# Altium integrated library Molex Microfit.IntLib: 197 symbols (part 1 of 2)
Pins are listed as number, name and electrical type; pins without a type are passive.

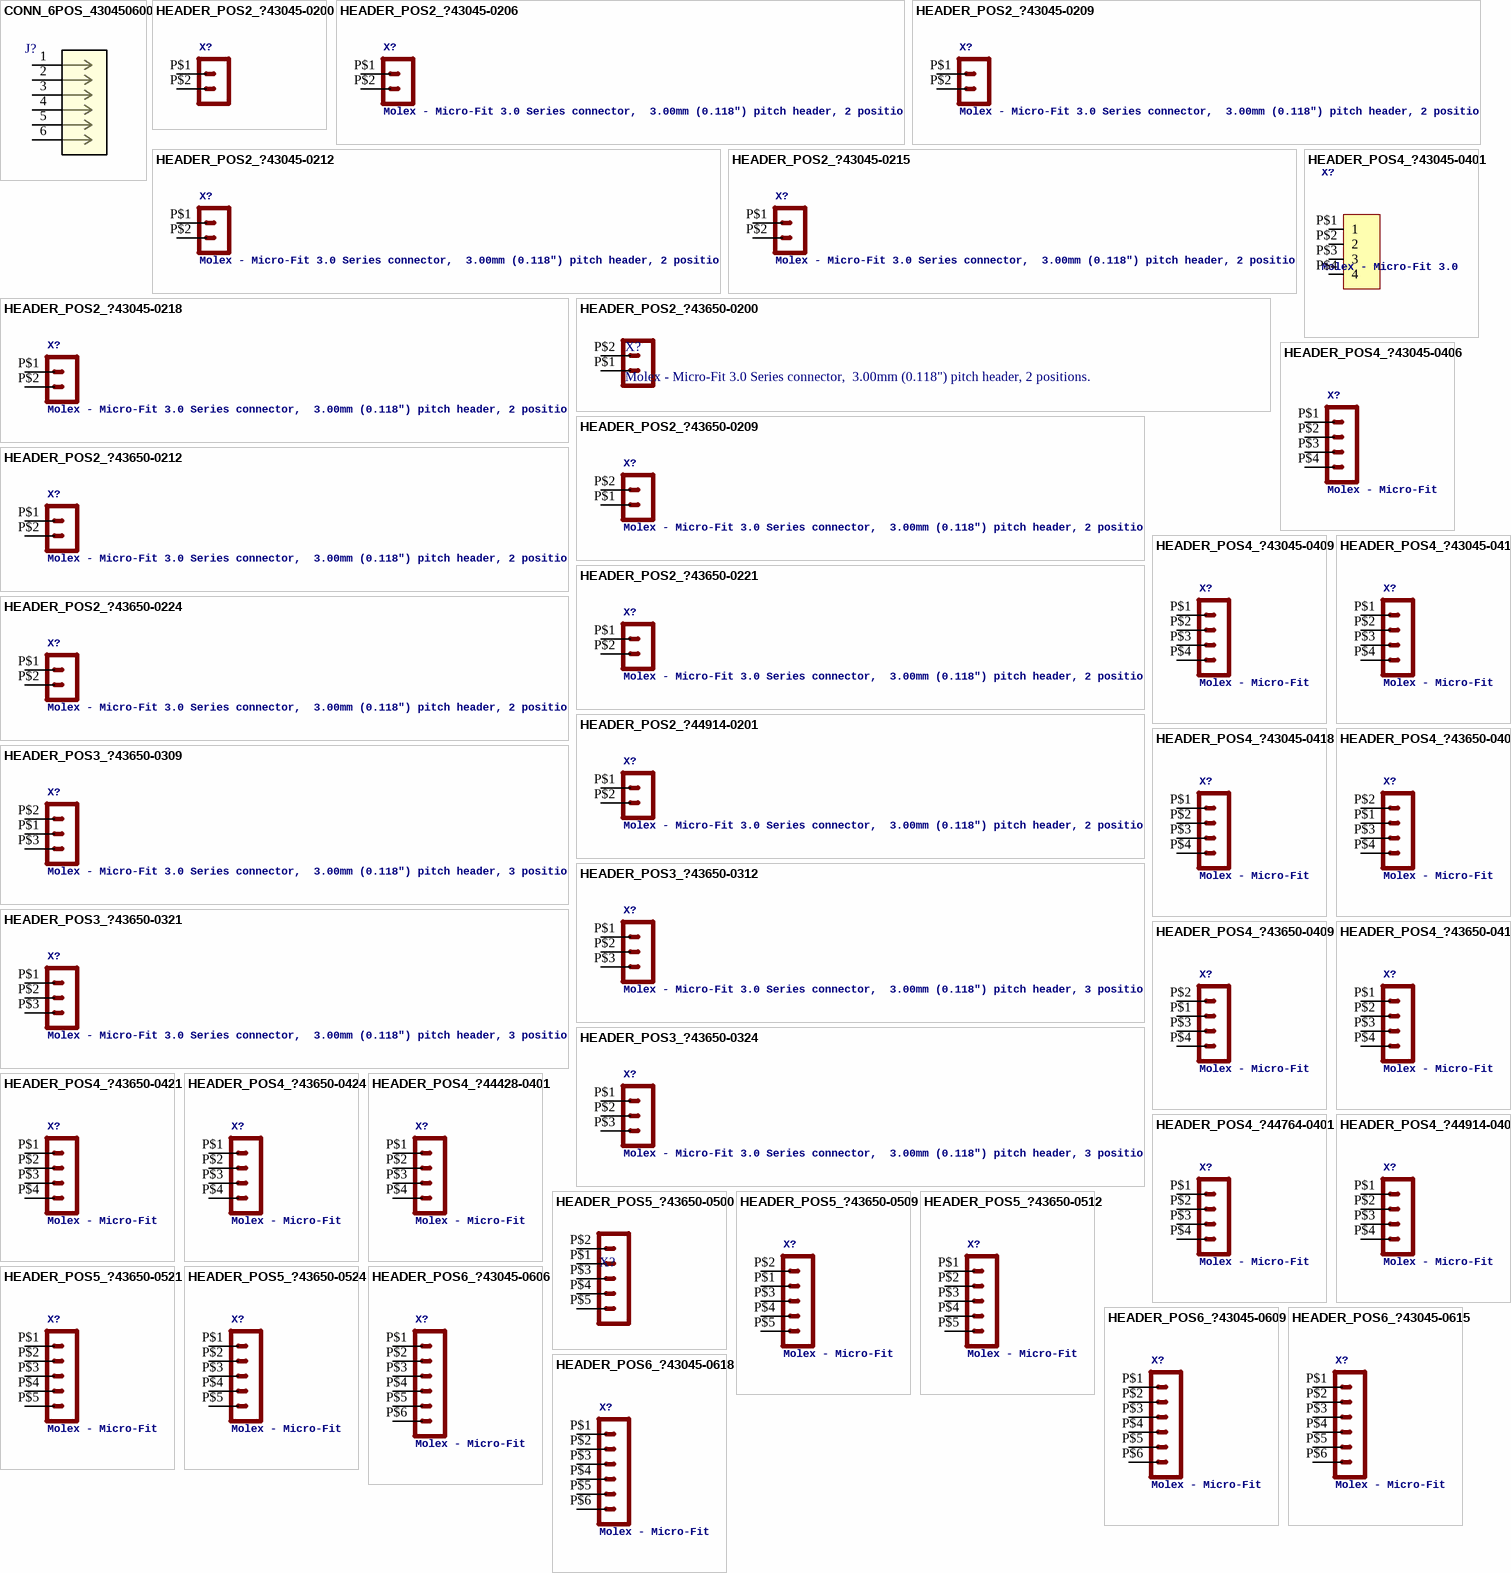
[diagram p0: symbols CONN_6POS_430450600 to HEADER_POS6_?43045-0618]

## CONN_6POS_430450600
designator J?, comment 430450600  (value not drawn)
Micro-Fit 3.0 Right-Angle Header, 3.00mm Pitch, Dual Row, 6 Circuits, with Snap-in Plastic Peg PCB Lock, Tin, Glow-Wire Capable, Black; Manufacturer_Name: Molex Connector Corporation; Copyright: Copyright (C) 2025 Ultra Librarian. All rights reserved.; Manufacturer_Part_Number: 430450600; RefDes: RefDes; Type: Type
footprint CONN_SD-43045-001_06_MOL
pins: 1, 2, 3, 4, 5, 6

## HEADER_POS2_?43045-0200
designator X?, comment Molex - Micro-Fit 3.0 Series connector,  3.00mm (0.118") pitch header, 2 positions.  (value not drawn)
GateName_1: G$1; SymbolName_1: HEADER_POS2; DeviceName: 43045-0200; DeviceSetName: HEADER_POS2_?; LibraryName: con-molex-micro-fit-3_0_2; Package: 43045-0200
footprint 43045-0200
pins: P$1 1, P$2 2

## HEADER_POS2_?43045-0206
designator X?, comment Molex - Micro-Fit 3.0 Series connector,  3.00mm (0.118") pitch header, 2 positions.
GateName_1: G$1; SymbolName_1: HEADER_POS2; DeviceName: 43045-0206; DeviceSetName: HEADER_POS2_?; LibraryName: con-molex-micro-fit-3_0_2; Package: 43045-0206
footprint 43045-0206
pins: P$1 1, P$2 2

## HEADER_POS2_?43045-0209
designator X?, comment Molex - Micro-Fit 3.0 Series connector,  3.00mm (0.118") pitch header, 2 positions.
GateName_1: G$1; SymbolName_1: HEADER_POS2; DeviceName: 43045-0209; DeviceSetName: HEADER_POS2_?; LibraryName: con-molex-micro-fit-3_0_2; Package: 43045-0209
footprint 43045-0209
pins: P$1 1, P$2 2

## HEADER_POS2_?43045-0212
designator X?, comment Molex - Micro-Fit 3.0 Series connector,  3.00mm (0.118") pitch header, 2 positions.
GateName_1: G$1; SymbolName_1: HEADER_POS2; DeviceName: 43045-0212; DeviceSetName: HEADER_POS2_?; LibraryName: con-molex-micro-fit-3_0_2; Package: 43045-0212
footprint 43045-0212
pins: P$1 1, P$2 2

## HEADER_POS2_?43045-0215
designator X?, comment Molex - Micro-Fit 3.0 Series connector,  3.00mm (0.118") pitch header, 2 positions.
GateName_1: G$1; SymbolName_1: HEADER_POS2; DeviceName: 43045-0215; DeviceSetName: HEADER_POS2_?; LibraryName: con-molex-micro-fit-3_0_2; Package: 43045-0215
footprint 43045-0215
pins: P$1 1, P$2 2

## HEADER_POS2_?43045-0218
designator X?, comment Molex - Micro-Fit 3.0 Series connector,  3.00mm (0.118") pitch header, 2 positions.
GateName_1: G$1; SymbolName_1: HEADER_POS2; DeviceName: 43045-0218; DeviceSetName: HEADER_POS2_?; LibraryName: con-molex-micro-fit-3_0_2; Package: 43045-0218
footprint 43045-0218
pins: P$1 1, P$2 2

## HEADER_POS2_?43650-0200
designator X?, comment Molex - Micro-Fit 3.0 Series connector,  3.00mm (0.118") pitch header, 2 positions.
footprint 43650-0200
pins: P$1 2, P$2 1

## HEADER_POS2_?43650-0209
designator X?, comment Molex - Micro-Fit 3.0 Series connector,  3.00mm (0.118") pitch header, 2 positions.
GateName_1: G$1; SymbolName_1: HEADER_POS2; DeviceName: 43650-0209; DeviceSetName: HEADER_POS2_?; LibraryName: con-molex-micro-fit-3_0_2; Package: 43650-0209
footprint 43650-0209
pins: P$1 2, P$2 1

## HEADER_POS2_?43650-0212
designator X?, comment Molex - Micro-Fit 3.0 Series connector,  3.00mm (0.118") pitch header, 2 positions.
GateName_1: G$1; SymbolName_1: HEADER_POS2; DeviceName: 43650-0212; DeviceSetName: HEADER_POS2_?; LibraryName: con-molex-micro-fit-3_0_2; Package: 43650-0212
footprint 43650-0212
pins: P$1 1, P$2 2

## HEADER_POS2_?43650-0221
designator X?, comment Molex - Micro-Fit 3.0 Series connector,  3.00mm (0.118") pitch header, 2 positions.
GateName_1: G$1; SymbolName_1: HEADER_POS2; DeviceName: 43650-0221; DeviceSetName: HEADER_POS2_?; LibraryName: con-molex-micro-fit-3_0_2; Package: 43650-0221
footprint 43650-0221
pins: P$1 1, P$2 2

## HEADER_POS2_?43650-0224
designator X?, comment Molex - Micro-Fit 3.0 Series connector,  3.00mm (0.118") pitch header, 2 positions.
GateName_1: G$1; SymbolName_1: HEADER_POS2; DeviceName: 43650-0224; DeviceSetName: HEADER_POS2_?; LibraryName: con-molex-micro-fit-3_0_2; Package: 43650-0224
footprint 43650-0224
pins: P$1 1, P$2 2

## HEADER_POS2_?44914-0201
designator X?, comment Molex - Micro-Fit 3.0 Series connector,  3.00mm (0.118") pitch header, 2 positions.
GateName_1: G$1; SymbolName_1: HEADER_POS2; DeviceName: 44914-0201; DeviceSetName: HEADER_POS2_?; LibraryName: con-molex-micro-fit-3_0_2; Package: 44914-0201
footprint 44914-0201
pins: P$1 1, P$2 2

## HEADER_POS3_?43650-0309
designator X?, comment Molex - Micro-Fit 3.0 Series connector,  3.00mm (0.118") pitch header, 3 positions.
GateName_1: G$1; SymbolName_1: HEADER_POS3; DeviceName: 43650-0309; DeviceSetName: HEADER_POS3_?; LibraryName: con-molex-micro-fit-3_0_2; Package: 43650-0309
footprint 43650-0309
pins: P$1 2, P$2 1, P$3 3

## HEADER_POS3_?43650-0312
designator X?, comment Molex - Micro-Fit 3.0 Series connector,  3.00mm (0.118") pitch header, 3 positions.
GateName_1: G$1; SymbolName_1: HEADER_POS3; DeviceName: 43650-0312; DeviceSetName: HEADER_POS3_?; LibraryName: con-molex-micro-fit-3_0_2; Package: 43650-0312
footprint 43650-0312
pins: P$1 1, P$2 2, P$3 3

## HEADER_POS3_?43650-0321
designator X?, comment Molex - Micro-Fit 3.0 Series connector,  3.00mm (0.118") pitch header, 3 positions.
GateName_1: G$1; SymbolName_1: HEADER_POS3; DeviceName: 43650-0321; DeviceSetName: HEADER_POS3_?; LibraryName: con-molex-micro-fit-3_0_2; Package: 43650-0321
footprint 43650-0321
pins: P$1 1, P$2 2, P$3 3

## HEADER_POS3_?43650-0324
designator X?, comment Molex - Micro-Fit 3.0 Series connector,  3.00mm (0.118") pitch header, 3 positions.
GateName_1: G$1; SymbolName_1: HEADER_POS3; DeviceName: 43650-0324; DeviceSetName: HEADER_POS3_?; LibraryName: con-molex-micro-fit-3_0_2; Package: 43650-0324
footprint 43650-0324
pins: P$1 1, P$2 2, P$3 3

## HEADER_POS4_?43045-0401
designator X?, comment Molex - Micro-Fit 3.0 Series connector,  3.00mm (0.118") pitch header, 4 positions.
GateName_1: G$1; SymbolName_1: HEADER_POS4; DeviceName: 43045-0401; DeviceSetName: HEADER_POS4_?; LibraryName: con-molex-micro-fit-3_0_2; Package: 43045-0400
footprint 43045-0400
pins: P$1 1, P$2 2, P$3 3, P$4 4

## HEADER_POS4_?43045-0406
designator X?, comment Molex - Micro-Fit 3.0 Series connector,  3.00mm (0.118") pitch header, 4 positions.
GateName_1: G$1; SymbolName_1: HEADER_POS4; DeviceName: 43045-0406; DeviceSetName: HEADER_POS4_?; LibraryName: con-molex-micro-fit-3_0_2; Package: 43045-0406
footprint 43045-0406
pins: P$1 1, P$2 2, P$3 3, P$4 4

## HEADER_POS4_?43045-0409
designator X?, comment Molex - Micro-Fit 3.0 Series connector,  3.00mm (0.118") pitch header, 4 positions.
GateName_1: G$1; SymbolName_1: HEADER_POS4; DeviceName: 43045-0409; DeviceSetName: HEADER_POS4_?; LibraryName: con-molex-micro-fit-3_0_2; Package: 43045-0409
footprint 43045-0409
pins: P$1 1, P$2 2, P$3 3, P$4 4

## HEADER_POS4_?43045-0415
designator X?, comment Molex - Micro-Fit 3.0 Series connector,  3.00mm (0.118") pitch header, 4 positions.
GateName_1: G$1; SymbolName_1: HEADER_POS4; DeviceName: 43045-0415; DeviceSetName: HEADER_POS4_?; LibraryName: con-molex-micro-fit-3_0_2; Package: 43045-0415
footprint 43045-0415
pins: P$1 1, P$2 2, P$3 3, P$4 4

## HEADER_POS4_?43045-0418
designator X?, comment Molex - Micro-Fit 3.0 Series connector,  3.00mm (0.118") pitch header, 4 positions.
GateName_1: G$1; SymbolName_1: HEADER_POS4; DeviceName: 43045-0418; DeviceSetName: HEADER_POS4_?; LibraryName: con-molex-micro-fit-3_0_2; Package: 43045-0418
footprint 43045-0418
pins: P$1 1, P$2 2, P$3 3, P$4 4

## HEADER_POS4_?43650-0400
designator X?, comment Molex - Micro-Fit 3.0 Series connector,  3.00mm (0.118") pitch header, 4 positions.
GateName_1: G$1; SymbolName_1: HEADER_POS4; DeviceName: 43650-0409; DeviceSetName: HEADER_POS4_?; LibraryName: con-molex-micro-fit-3_0_2; Package: 43650-0409
footprint 43650-0400
pins: P$1 2, P$2 1, P$3 3, P$4 4

## HEADER_POS4_?43650-0409
designator X?, comment Molex - Micro-Fit 3.0 Series connector,  3.00mm (0.118") pitch header, 4 positions.
GateName_1: G$1; SymbolName_1: HEADER_POS4; DeviceName: 43650-0409; DeviceSetName: HEADER_POS4_?; LibraryName: con-molex-micro-fit-3_0_2; Package: 43650-0409
footprint 43650-0409
pins: P$1 2, P$2 1, P$3 3, P$4 4

## HEADER_POS4_?43650-0412
designator X?, comment Molex - Micro-Fit 3.0 Series connector,  3.00mm (0.118") pitch header, 4 positions.
GateName_1: G$1; SymbolName_1: HEADER_POS4; DeviceName: 43650-0412; DeviceSetName: HEADER_POS4_?; LibraryName: con-molex-micro-fit-3_0_2; Package: 43650-0412
footprint 43650-0412
pins: P$1 1, P$2 2, P$3 3, P$4 4

## HEADER_POS4_?43650-0421
designator X?, comment Molex - Micro-Fit 3.0 Series connector,  3.00mm (0.118") pitch header, 4 positions.
GateName_1: G$1; SymbolName_1: HEADER_POS4; DeviceName: 43650-0421; DeviceSetName: HEADER_POS4_?; LibraryName: con-molex-micro-fit-3_0_2; Package: 43650-0421
footprint 43650-0421
pins: P$1 1, P$2 2, P$3 3, P$4 4

## HEADER_POS4_?43650-0424
designator X?, comment Molex - Micro-Fit 3.0 Series connector,  3.00mm (0.118") pitch header, 4 positions.
GateName_1: G$1; SymbolName_1: HEADER_POS4; DeviceName: 43650-0424; DeviceSetName: HEADER_POS4_?; LibraryName: con-molex-micro-fit-3_0_2; Package: 43650-0424
footprint 43650-0424
pins: P$1 1, P$2 2, P$3 3, P$4 4

## HEADER_POS4_?44428-0401
designator X?, comment Molex - Micro-Fit 3.0 Series connector,  3.00mm (0.118") pitch header, 4 positions.
GateName_1: G$1; SymbolName_1: HEADER_POS4; DeviceName: 44428-0401; DeviceSetName: HEADER_POS4_?; LibraryName: con-molex-micro-fit-3_0_2; Package: 44428-0401
footprint 44428-0401
pins: P$1 1, P$2 2, P$3 3, P$4 4

## HEADER_POS4_?44764-0401
designator X?, comment Molex - Micro-Fit 3.0 Series connector,  3.00mm (0.118") pitch header, 4 positions.
GateName_1: G$1; SymbolName_1: HEADER_POS4; DeviceName: 44764-0401; DeviceSetName: HEADER_POS4_?; LibraryName: con-molex-micro-fit-3_0_2; Package: 44764-0401
footprint 44764-0401
pins: P$1 1, P$2 2, P$3 3, P$4 4

## HEADER_POS4_?44914-0401
designator X?, comment Molex - Micro-Fit 3.0 Series connector,  3.00mm (0.118") pitch header, 4 positions.
GateName_1: G$1; SymbolName_1: HEADER_POS4; DeviceName: 44914-0401; DeviceSetName: HEADER_POS4_?; LibraryName: con-molex-micro-fit-3_0_2; Package: 44914-0401
footprint 44914-0401
pins: P$1 1, P$2 2, P$3 3, P$4 4

## HEADER_POS5_?43650-0500
designator X?, comment Molex - Micro-Fit 3.0 Series connector,  3.00mm (0.118") pitch header, 5 positions.  (value not drawn)
footprint 43650-0500
pins: P$1 2, P$2 1, P$3 3, P$4 4, P$5 5

## HEADER_POS5_?43650-0509
designator X?, comment Molex - Micro-Fit 3.0 Series connector,  3.00mm (0.118") pitch header, 5 positions.
GateName_1: G$1; SymbolName_1: HEADER_POS5; DeviceName: 43650-0509; DeviceSetName: HEADER_POS5_?; LibraryName: con-molex-micro-fit-3_0_2; Package: 43650-0509
footprint 43650-0509
pins: P$1 2, P$2 1, P$3 3, P$4 4, P$5 5

## HEADER_POS5_?43650-0512
designator X?, comment Molex - Micro-Fit 3.0 Series connector,  3.00mm (0.118") pitch header, 5 positions.
GateName_1: G$1; SymbolName_1: HEADER_POS5; DeviceName: 43650-0512; DeviceSetName: HEADER_POS5_?; LibraryName: con-molex-micro-fit-3_0_2; Package: 43650-0512
footprint 43650-0512
pins: P$1 1, P$2 2, P$3 3, P$4 4, P$5 5

## HEADER_POS5_?43650-0521
designator X?, comment Molex - Micro-Fit 3.0 Series connector,  3.00mm (0.118") pitch header, 5 positions.
GateName_1: G$1; SymbolName_1: HEADER_POS5; DeviceName: 43650-0521; DeviceSetName: HEADER_POS5_?; LibraryName: con-molex-micro-fit-3_0_2; Package: 43650-0521
footprint 43650-0521
pins: P$1 1, P$2 2, P$3 3, P$4 4, P$5 5

## HEADER_POS5_?43650-0524
designator X?, comment Molex - Micro-Fit 3.0 Series connector,  3.00mm (0.118") pitch header, 5 positions.
GateName_1: G$1; SymbolName_1: HEADER_POS5; DeviceName: 43650-0524; DeviceSetName: HEADER_POS5_?; LibraryName: con-molex-micro-fit-3_0_2; Package: 43650-0524
footprint 43650-0524
pins: P$1 1, P$2 2, P$3 3, P$4 4, P$5 5

## HEADER_POS6_?43045-0606
designator X?, comment Molex - Micro-Fit 3.0 Series connector,  3.00mm (0.118") pitch header, 6 positions.
GateName_1: G$1; SymbolName_1: HEADER_POS6; DeviceName: 43045-0606; DeviceSetName: HEADER_POS6_?; LibraryName: con-molex-micro-fit-3_0_2; Package: 43045-0606
footprint 43045-0606
pins: P$1 1, P$2 2, P$3 3, P$4 4, P$5 5, P$6 6

## HEADER_POS6_?43045-0609
designator X?, comment Molex - Micro-Fit 3.0 Series connector,  3.00mm (0.118") pitch header, 6 positions.
GateName_1: G$1; SymbolName_1: HEADER_POS6; DeviceName: 43045-0609; DeviceSetName: HEADER_POS6_?; LibraryName: con-molex-micro-fit-3_0_2; Package: 43045-0609
footprint 43045-0609
pins: P$1 1, P$2 2, P$3 3, P$4 4, P$5 5, P$6 6

## HEADER_POS6_?43045-0615
designator X?, comment Molex - Micro-Fit 3.0 Series connector,  3.00mm (0.118") pitch header, 6 positions.
GateName_1: G$1; SymbolName_1: HEADER_POS6; DeviceName: 43045-0615; DeviceSetName: HEADER_POS6_?; LibraryName: con-molex-micro-fit-3_0_2; Package: 43045-0615
footprint 43045-0615
pins: P$1 1, P$2 2, P$3 3, P$4 4, P$5 5, P$6 6

## HEADER_POS6_?43045-0618
designator X?, comment Molex - Micro-Fit 3.0 Series connector,  3.00mm (0.118") pitch header, 6 positions.
GateName_1: G$1; SymbolName_1: HEADER_POS6; DeviceName: 43045-0618; DeviceSetName: HEADER_POS6_?; LibraryName: con-molex-micro-fit-3_0_2; Package: 43045-0618
footprint 43045-0618
pins: P$1 1, P$2 2, P$3 3, P$4 4, P$5 5, P$6 6

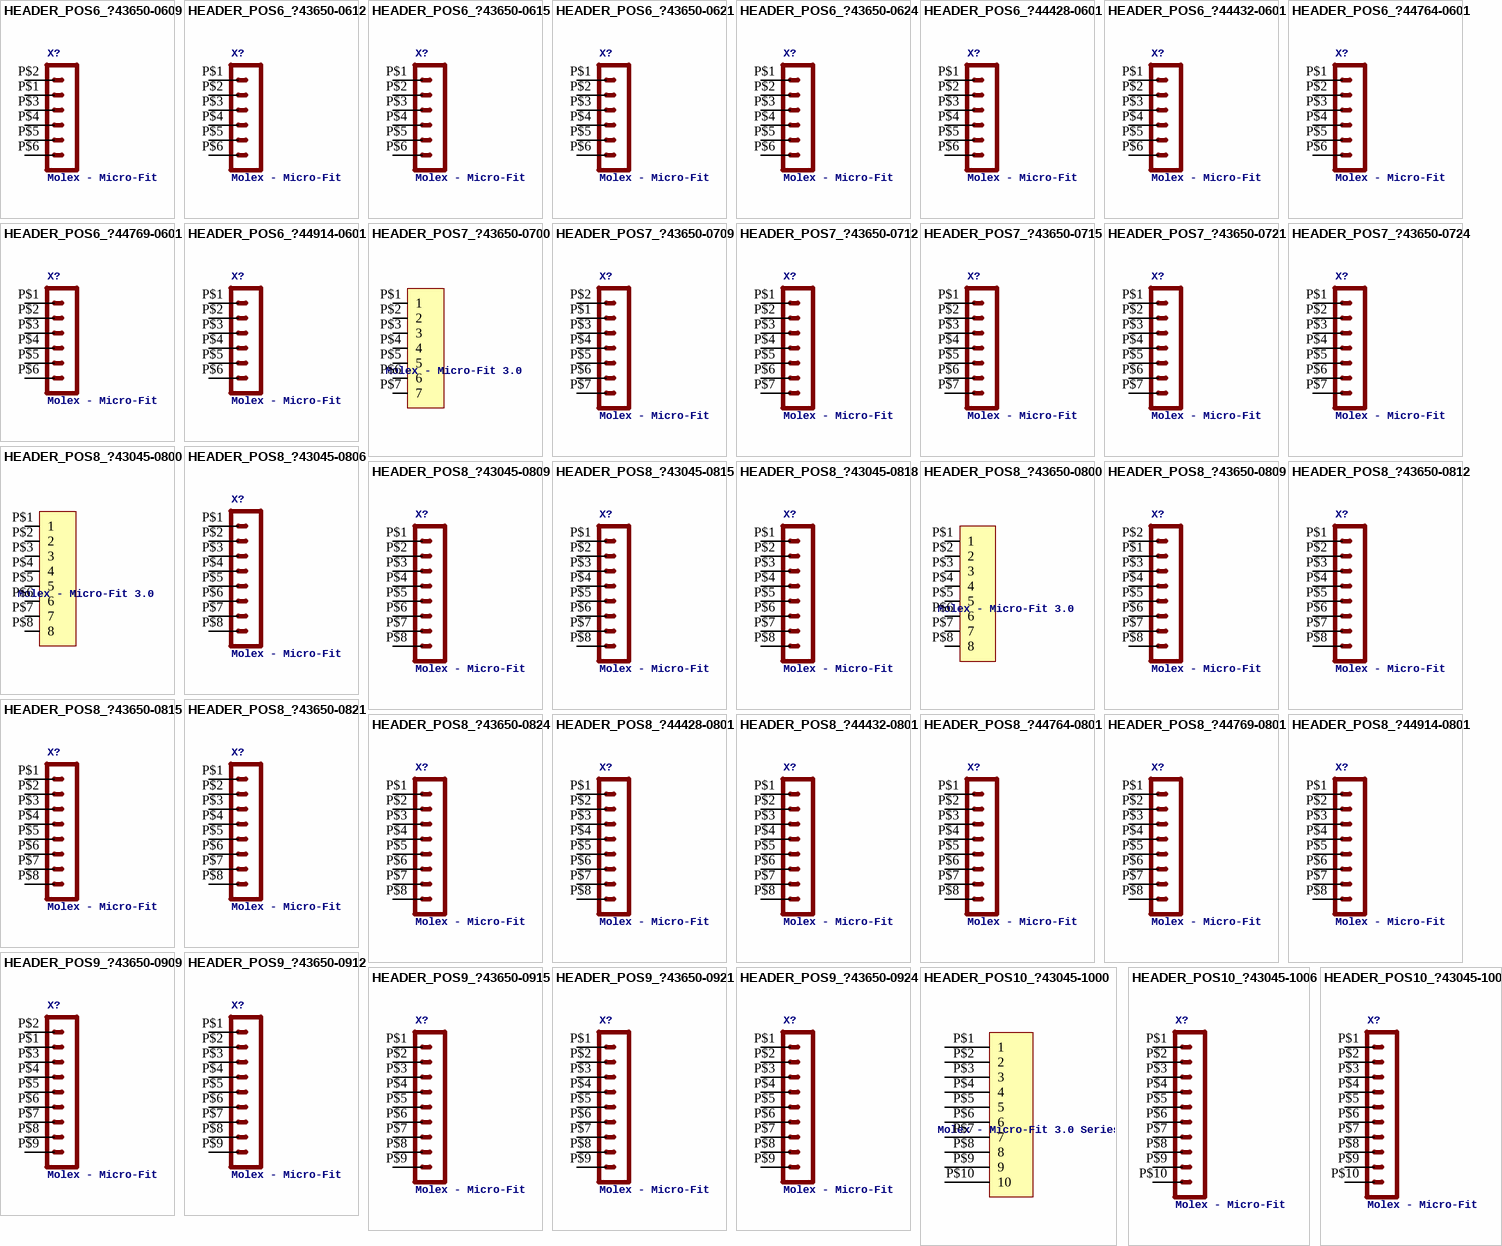
[diagram p1: symbols HEADER_POS6_?43650-0609 to HEADER_POS10_?43045-1009]

## HEADER_POS6_?43650-0609
designator X?, comment Molex - Micro-Fit 3.0 Series connector,  3.00mm (0.118") pitch header, 6 positions.
GateName_1: G$1; SymbolName_1: HEADER_POS6; DeviceName: 43650-0609; DeviceSetName: HEADER_POS6_?; LibraryName: con-molex-micro-fit-3_0_2; Package: 43650-0609
footprint 43650-0609
pins: P$1 2, P$2 1, P$3 3, P$4 4, P$5 5, P$6 6

## HEADER_POS6_?43650-0612
designator X?, comment Molex - Micro-Fit 3.0 Series connector,  3.00mm (0.118") pitch header, 6 positions.
GateName_1: G$1; SymbolName_1: HEADER_POS6; DeviceName: 43650-0612; DeviceSetName: HEADER_POS6_?; LibraryName: con-molex-micro-fit-3_0_2; Package: 43650-0612
footprint 43650-0612
pins: P$1 1, P$2 2, P$3 3, P$4 4, P$5 5, P$6 6

## HEADER_POS6_?43650-0615
designator X?, comment Molex - Micro-Fit 3.0 Series connector,  3.00mm (0.118") pitch header, 6 positions.
GateName_1: G$1; SymbolName_1: HEADER_POS6; DeviceName: 43650-0615; DeviceSetName: HEADER_POS6_?; LibraryName: con-molex-micro-fit-3_0_2; Package: 43650-0615
footprint 43650-0615
pins: P$1 1, P$2 2, P$3 3, P$4 4, P$5 5, P$6 6

## HEADER_POS6_?43650-0621
designator X?, comment Molex - Micro-Fit 3.0 Series connector,  3.00mm (0.118") pitch header, 6 positions.
GateName_1: G$1; SymbolName_1: HEADER_POS6; DeviceName: 43650-0621; DeviceSetName: HEADER_POS6_?; LibraryName: con-molex-micro-fit-3_0_2; Package: 43650-0621
footprint 43650-0621
pins: P$1 1, P$2 2, P$3 3, P$4 4, P$5 5, P$6 6

## HEADER_POS6_?43650-0624
designator X?, comment Molex - Micro-Fit 3.0 Series connector,  3.00mm (0.118") pitch header, 6 positions.
GateName_1: G$1; SymbolName_1: HEADER_POS6; DeviceName: 43650-0624; DeviceSetName: HEADER_POS6_?; LibraryName: con-molex-micro-fit-3_0_2; Package: 43650-0624
footprint 43650-0624
pins: P$1 1, P$2 2, P$3 3, P$4 4, P$5 5, P$6 6

## HEADER_POS6_?44428-0601
designator X?, comment Molex - Micro-Fit 3.0 Series connector,  3.00mm (0.118") pitch header, 6 positions.
GateName_1: G$1; SymbolName_1: HEADER_POS6; DeviceName: 44428-0601; DeviceSetName: HEADER_POS6_?; LibraryName: con-molex-micro-fit-3_0_2; Package: 44428-0601
footprint 44428-0601
pins: P$1 1, P$2 2, P$3 3, P$4 4, P$5 5, P$6 6

## HEADER_POS6_?44432-0601
designator X?, comment Molex - Micro-Fit 3.0 Series connector,  3.00mm (0.118") pitch header, 6 positions.
GateName_1: G$1; SymbolName_1: HEADER_POS6; DeviceName: 44432-0601; DeviceSetName: HEADER_POS6_?; LibraryName: con-molex-micro-fit-3_0_2; Package: 44432-0601
footprint 44432-0601
pins: P$1 1, P$2 2, P$3 3, P$4 4, P$5 5, P$6 6

## HEADER_POS6_?44764-0601
designator X?, comment Molex - Micro-Fit 3.0 Series connector,  3.00mm (0.118") pitch header, 6 positions.
GateName_1: G$1; SymbolName_1: HEADER_POS6; DeviceName: 44764-0601; DeviceSetName: HEADER_POS6_?; LibraryName: con-molex-micro-fit-3_0_2; Package: 44764-0601
footprint 44764-0601
pins: P$1 1, P$2 2, P$3 3, P$4 4, P$5 5, P$6 6

## HEADER_POS6_?44769-0601
designator X?, comment Molex - Micro-Fit 3.0 Series connector,  3.00mm (0.118") pitch header, 6 positions.
GateName_1: G$1; SymbolName_1: HEADER_POS6; DeviceName: 44769-0601; DeviceSetName: HEADER_POS6_?; LibraryName: con-molex-micro-fit-3_0_2; Package: 44769-0601
footprint 44769-0601
pins: P$1 1, P$2 2, P$3 3, P$4 4, P$5 5, P$6 6

## HEADER_POS6_?44914-0601
designator X?, comment Molex - Micro-Fit 3.0 Series connector,  3.00mm (0.118") pitch header, 6 positions.
GateName_1: G$1; SymbolName_1: HEADER_POS6; DeviceName: 44914-0601; DeviceSetName: HEADER_POS6_?; LibraryName: con-molex-micro-fit-3_0_2; Package: 44914-0601
footprint 44914-0601
pins: P$1 1, P$2 2, P$3 3, P$4 4, P$5 5, P$6 6

## HEADER_POS7_?43650-0700
designator X?, comment Molex - Micro-Fit 3.0 Series connector,  3.00mm (0.118") pitch header, 7 positions.
GateName_1: G$1; SymbolName_1: HEADER_POS7; DeviceName: 43650-0700; DeviceSetName: HEADER_POS7_?; LibraryName: con-molex-micro-fit-3_0_2; Package: 43650-0700
footprint 43650-0700
pins: P$1 1, P$2 2, P$3 3, P$4 4, P$5 5, P$6 6, P$7 7

## HEADER_POS7_?43650-0709
designator X?, comment Molex - Micro-Fit 3.0 Series connector,  3.00mm (0.118") pitch header, 7 positions.
GateName_1: G$1; SymbolName_1: HEADER_POS7; DeviceName: 43650-0709; DeviceSetName: HEADER_POS7_?; LibraryName: con-molex-micro-fit-3_0_2; Package: 43650-0709
footprint 43650-0709
pins: P$1 2, P$2 1, P$3 3, P$4 4, P$5 5, P$6 6, P$7 7

## HEADER_POS7_?43650-0712
designator X?, comment Molex - Micro-Fit 3.0 Series connector,  3.00mm (0.118") pitch header, 7 positions.
GateName_1: G$1; SymbolName_1: HEADER_POS7; DeviceName: 43650-0712; DeviceSetName: HEADER_POS7_?; LibraryName: con-molex-micro-fit-3_0_2; Package: 43650-0712
footprint 43650-0712
pins: P$1 1, P$2 2, P$3 3, P$4 4, P$5 5, P$6 6, P$7 7

## HEADER_POS7_?43650-0715
designator X?, comment Molex - Micro-Fit 3.0 Series connector,  3.00mm (0.118") pitch header, 7 positions.
GateName_1: G$1; SymbolName_1: HEADER_POS7; DeviceName: 43650-0715; DeviceSetName: HEADER_POS7_?; LibraryName: con-molex-micro-fit-3_0_2; Package: 43650-0715
footprint 43650-0715
pins: P$1 1, P$2 2, P$3 3, P$4 4, P$5 5, P$6 6, P$7 7

## HEADER_POS7_?43650-0721
designator X?, comment Molex - Micro-Fit 3.0 Series connector,  3.00mm (0.118") pitch header, 7 positions.
GateName_1: G$1; SymbolName_1: HEADER_POS7; DeviceName: 43650-0721; DeviceSetName: HEADER_POS7_?; LibraryName: con-molex-micro-fit-3_0_2; Package: 43650-0721
footprint 43650-0721
pins: P$1 1, P$2 2, P$3 3, P$4 4, P$5 5, P$6 6, P$7 7

## HEADER_POS7_?43650-0724
designator X?, comment Molex - Micro-Fit 3.0 Series connector,  3.00mm (0.118") pitch header, 7 positions.
GateName_1: G$1; SymbolName_1: HEADER_POS7; DeviceName: 43650-0724; DeviceSetName: HEADER_POS7_?; LibraryName: con-molex-micro-fit-3_0_2; Package: 43650-0724
footprint 43650-0724
pins: P$1 1, P$2 2, P$3 3, P$4 4, P$5 5, P$6 6, P$7 7

## HEADER_POS8_?43045-0800
designator X?, comment Molex - Micro-Fit 3.0 Series connector,  3.00mm (0.118") pitch header, 8 positions.
GateName_1: G$1; SymbolName_1: HEADER_POS8; DeviceName: 43045-0800; DeviceSetName: HEADER_POS8_?; LibraryName: con-molex-micro-fit-3_0_2; Package: 43045-0800
footprint 43045-0800
pins: P$1 1, P$2 2, P$3 3, P$4 4, P$5 5, P$6 6, P$7 7, P$8 8

## HEADER_POS8_?43045-0806
designator X?, comment Molex - Micro-Fit 3.0 Series connector,  3.00mm (0.118") pitch header, 8 positions.
GateName_1: G$1; SymbolName_1: HEADER_POS8; DeviceName: 43045-0806; DeviceSetName: HEADER_POS8_?; LibraryName: con-molex-micro-fit-3_0_2; Package: 43045-0806
footprint 43045-0806
pins: P$1 1, P$2 2, P$3 3, P$4 4, P$5 5, P$6 6, P$7 7, P$8 8

## HEADER_POS8_?43045-0809
designator X?, comment Molex - Micro-Fit 3.0 Series connector,  3.00mm (0.118") pitch header, 8 positions.
GateName_1: G$1; SymbolName_1: HEADER_POS8; DeviceName: 43045-0809; DeviceSetName: HEADER_POS8_?; LibraryName: con-molex-micro-fit-3_0_2; Package: 43045-0809
footprint 43045-0809
pins: P$1 1, P$2 2, P$3 3, P$4 4, P$5 5, P$6 6, P$7 7, P$8 8

## HEADER_POS8_?43045-0815
designator X?, comment Molex - Micro-Fit 3.0 Series connector,  3.00mm (0.118") pitch header, 8 positions.
GateName_1: G$1; SymbolName_1: HEADER_POS8; DeviceName: 43045-0815; DeviceSetName: HEADER_POS8_?; LibraryName: con-molex-micro-fit-3_0_2; Package: 43045-0815
footprint 43045-0815
pins: P$1 1, P$2 2, P$3 3, P$4 4, P$5 5, P$6 6, P$7 7, P$8 8

## HEADER_POS8_?43045-0818
designator X?, comment Molex - Micro-Fit 3.0 Series connector,  3.00mm (0.118") pitch header, 8 positions.
GateName_1: G$1; SymbolName_1: HEADER_POS8; DeviceName: 43045-0818; DeviceSetName: HEADER_POS8_?; LibraryName: con-molex-micro-fit-3_0_2; Package: 43045-0818
footprint 43045-0818
pins: P$1 1, P$2 2, P$3 3, P$4 4, P$5 5, P$6 6, P$7 7, P$8 8

## HEADER_POS8_?43650-0800
designator X?, comment Molex - Micro-Fit 3.0 Series connector,  3.00mm (0.118") pitch header, 8 positions.
GateName_1: G$1; SymbolName_1: HEADER_POS8; DeviceName: 43650-0800; DeviceSetName: HEADER_POS8_?; LibraryName: con-molex-micro-fit-3_0_2; Package: 43650-0800
footprint 43650-0800
pins: P$1 1, P$2 2, P$3 3, P$4 4, P$5 5, P$6 6, P$7 7, P$8 8

## HEADER_POS8_?43650-0809
designator X?, comment Molex - Micro-Fit 3.0 Series connector,  3.00mm (0.118") pitch header, 8 positions.
GateName_1: G$1; SymbolName_1: HEADER_POS8; DeviceName: 43650-0809; DeviceSetName: HEADER_POS8_?; LibraryName: con-molex-micro-fit-3_0_2; Package: 43650-0809
footprint 43650-0809
pins: P$1 2, P$2 1, P$3 3, P$4 4, P$5 5, P$6 6, P$7 7, P$8 8

## HEADER_POS8_?43650-0812
designator X?, comment Molex - Micro-Fit 3.0 Series connector,  3.00mm (0.118") pitch header, 8 positions.
GateName_1: G$1; SymbolName_1: HEADER_POS8; DeviceName: 43650-0812; DeviceSetName: HEADER_POS8_?; LibraryName: con-molex-micro-fit-3_0_2; Package: 43650-0812
footprint 43650-0812
pins: P$1 1, P$2 2, P$3 3, P$4 4, P$5 5, P$6 6, P$7 7, P$8 8

## HEADER_POS8_?43650-0815
designator X?, comment Molex - Micro-Fit 3.0 Series connector,  3.00mm (0.118") pitch header, 8 positions.
GateName_1: G$1; SymbolName_1: HEADER_POS8; DeviceName: 43650-0815; DeviceSetName: HEADER_POS8_?; LibraryName: con-molex-micro-fit-3_0_2; Package: 43650-0815
footprint 43650-0815
pins: P$1 1, P$2 2, P$3 3, P$4 4, P$5 5, P$6 6, P$7 7, P$8 8

## HEADER_POS8_?43650-0821
designator X?, comment Molex - Micro-Fit 3.0 Series connector,  3.00mm (0.118") pitch header, 8 positions.
GateName_1: G$1; SymbolName_1: HEADER_POS8; DeviceName: 43650-0821; DeviceSetName: HEADER_POS8_?; LibraryName: con-molex-micro-fit-3_0_2; Package: 43650-0821
footprint 43650-0821
pins: P$1 1, P$2 2, P$3 3, P$4 4, P$5 5, P$6 6, P$7 7, P$8 8

## HEADER_POS8_?43650-0824
designator X?, comment Molex - Micro-Fit 3.0 Series connector,  3.00mm (0.118") pitch header, 8 positions.
GateName_1: G$1; SymbolName_1: HEADER_POS8; DeviceName: 43650-0824; DeviceSetName: HEADER_POS8_?; LibraryName: con-molex-micro-fit-3_0_2; Package: 43650-0824
footprint 43650-0824
pins: P$1 1, P$2 2, P$3 3, P$4 4, P$5 5, P$6 6, P$7 7, P$8 8

## HEADER_POS8_?44428-0801
designator X?, comment Molex - Micro-Fit 3.0 Series connector,  3.00mm (0.118") pitch header, 8 positions.
GateName_1: G$1; SymbolName_1: HEADER_POS8; DeviceName: 44428-0801; DeviceSetName: HEADER_POS8_?; LibraryName: con-molex-micro-fit-3_0_2; Package: 44428-0801
footprint 44428-0801
pins: P$1 1, P$2 2, P$3 3, P$4 4, P$5 5, P$6 6, P$7 7, P$8 8

## HEADER_POS8_?44432-0801
designator X?, comment Molex - Micro-Fit 3.0 Series connector,  3.00mm (0.118") pitch header, 8 positions.
GateName_1: G$1; SymbolName_1: HEADER_POS8; DeviceName: 44432-0801; DeviceSetName: HEADER_POS8_?; LibraryName: con-molex-micro-fit-3_0_2; Package: 44432-0801
footprint 44432-0801
pins: P$1 1, P$2 2, P$3 3, P$4 4, P$5 5, P$6 6, P$7 7, P$8 8

## HEADER_POS8_?44764-0801
designator X?, comment Molex - Micro-Fit 3.0 Series connector,  3.00mm (0.118") pitch header, 8 positions.
GateName_1: G$1; SymbolName_1: HEADER_POS8; DeviceName: 44764-0801; DeviceSetName: HEADER_POS8_?; LibraryName: con-molex-micro-fit-3_0_2; Package: 44764-0801
footprint 44764-0801
pins: P$1 1, P$2 2, P$3 3, P$4 4, P$5 5, P$6 6, P$7 7, P$8 8

## HEADER_POS8_?44769-0801
designator X?, comment Molex - Micro-Fit 3.0 Series connector,  3.00mm (0.118") pitch header, 8 positions.
GateName_1: G$1; SymbolName_1: HEADER_POS8; DeviceName: 44769-0801; DeviceSetName: HEADER_POS8_?; LibraryName: con-molex-micro-fit-3_0_2; Package: 44769-0801
footprint 44769-0801
pins: P$1 1, P$2 2, P$3 3, P$4 4, P$5 5, P$6 6, P$7 7, P$8 8

## HEADER_POS8_?44914-0801
designator X?, comment Molex - Micro-Fit 3.0 Series connector,  3.00mm (0.118") pitch header, 8 positions.
GateName_1: G$1; SymbolName_1: HEADER_POS8; DeviceName: 44914-0801; DeviceSetName: HEADER_POS8_?; LibraryName: con-molex-micro-fit-3_0_2; Package: 44914-0801
footprint 44914-0801
pins: P$1 1, P$2 2, P$3 3, P$4 4, P$5 5, P$6 6, P$7 7, P$8 8

## HEADER_POS9_?43650-0909
designator X?, comment Molex - Micro-Fit 3.0 Series connector,  3.00mm (0.118") pitch header, 9 positions.
GateName_1: G$1; SymbolName_1: HEADER_POS9; DeviceName: 43650-0909; DeviceSetName: HEADER_POS9_?; LibraryName: con-molex-micro-fit-3_0_2; Package: 43650-0909
footprint 43650-0909
pins: P$1 2, P$2 1, P$3 3, P$4 4, P$5 5, P$6 6, P$7 7, P$8 8, P$9 9

## HEADER_POS9_?43650-0912
designator X?, comment Molex - Micro-Fit 3.0 Series connector,  3.00mm (0.118") pitch header, 9 positions.
GateName_1: G$1; SymbolName_1: HEADER_POS9; DeviceName: 43650-0912; DeviceSetName: HEADER_POS9_?; LibraryName: con-molex-micro-fit-3_0_2; Package: 43650-0912
footprint 43650-0912
pins: P$1 1, P$2 2, P$3 3, P$4 4, P$5 5, P$6 6, P$7 7, P$8 8, P$9 9

## HEADER_POS9_?43650-0915
designator X?, comment Molex - Micro-Fit 3.0 Series connector,  3.00mm (0.118") pitch header, 9 positions.
GateName_1: G$1; SymbolName_1: HEADER_POS9; DeviceName: 43650-0915; DeviceSetName: HEADER_POS9_?; LibraryName: con-molex-micro-fit-3_0_2; Package: 43650-0915
footprint 43650-0915
pins: P$1 1, P$2 2, P$3 3, P$4 4, P$5 5, P$6 6, P$7 7, P$8 8, P$9 9

## HEADER_POS9_?43650-0921
designator X?, comment Molex - Micro-Fit 3.0 Series connector,  3.00mm (0.118") pitch header, 9 positions.
GateName_1: G$1; SymbolName_1: HEADER_POS9; DeviceName: 43650-0921; DeviceSetName: HEADER_POS9_?; LibraryName: con-molex-micro-fit-3_0_2; Package: 43650-0921
footprint 43650-0921
pins: P$1 1, P$2 2, P$3 3, P$4 4, P$5 5, P$6 6, P$7 7, P$8 8, P$9 9

## HEADER_POS9_?43650-0924
designator X?, comment Molex - Micro-Fit 3.0 Series connector,  3.00mm (0.118") pitch header, 9 positions.
GateName_1: G$1; SymbolName_1: HEADER_POS9; DeviceName: 43650-0924; DeviceSetName: HEADER_POS9_?; LibraryName: con-molex-micro-fit-3_0_2; Package: 43650-0924
footprint 43650-0924
pins: P$1 1, P$2 2, P$3 3, P$4 4, P$5 5, P$6 6, P$7 7, P$8 8, P$9 9

## HEADER_POS10_?43045-1000
designator X?, comment Molex - Micro-Fit 3.0 Series connector,  3.00mm (0.118") pitch header, 10 positions.
GateName_1: G$1; SymbolName_1: HEADER_POS10; DeviceName: 43045-1000; DeviceSetName: HEADER_POS10_?; LibraryName: con-molex-micro-fit-3_0_2; Package: 43045-1000
footprint 43045-1000
pins: P$1 1, P$2 2, P$3 3, P$4 4, P$5 5, P$6 6, P$7 7, P$8 8, P$9 9, P$10 10

## HEADER_POS10_?43045-1006
designator X?, comment Molex - Micro-Fit 3.0 Series connector,  3.00mm (0.118") pitch header, 10 positions.
GateName_1: G$1; SymbolName_1: HEADER_POS10; DeviceName: 43045-1006; DeviceSetName: HEADER_POS10_?; LibraryName: con-molex-micro-fit-3_0_2; Package: 43045-1006
footprint 43045-1006
pins: P$1 1, P$2 2, P$3 3, P$4 4, P$5 5, P$6 6, P$7 7, P$8 8, P$9 9, P$10 10

## HEADER_POS10_?43045-1009
designator X?, comment Molex - Micro-Fit 3.0 Series connector,  3.00mm (0.118") pitch header, 10 positions.
GateName_1: G$1; SymbolName_1: HEADER_POS10; DeviceName: 43045-1009; DeviceSetName: HEADER_POS10_?; LibraryName: con-molex-micro-fit-3_0_2; Package: 43045-1009
footprint 43045-1009
pins: P$1 1, P$2 2, P$3 3, P$4 4, P$5 5, P$6 6, P$7 7, P$8 8, P$9 9, P$10 10

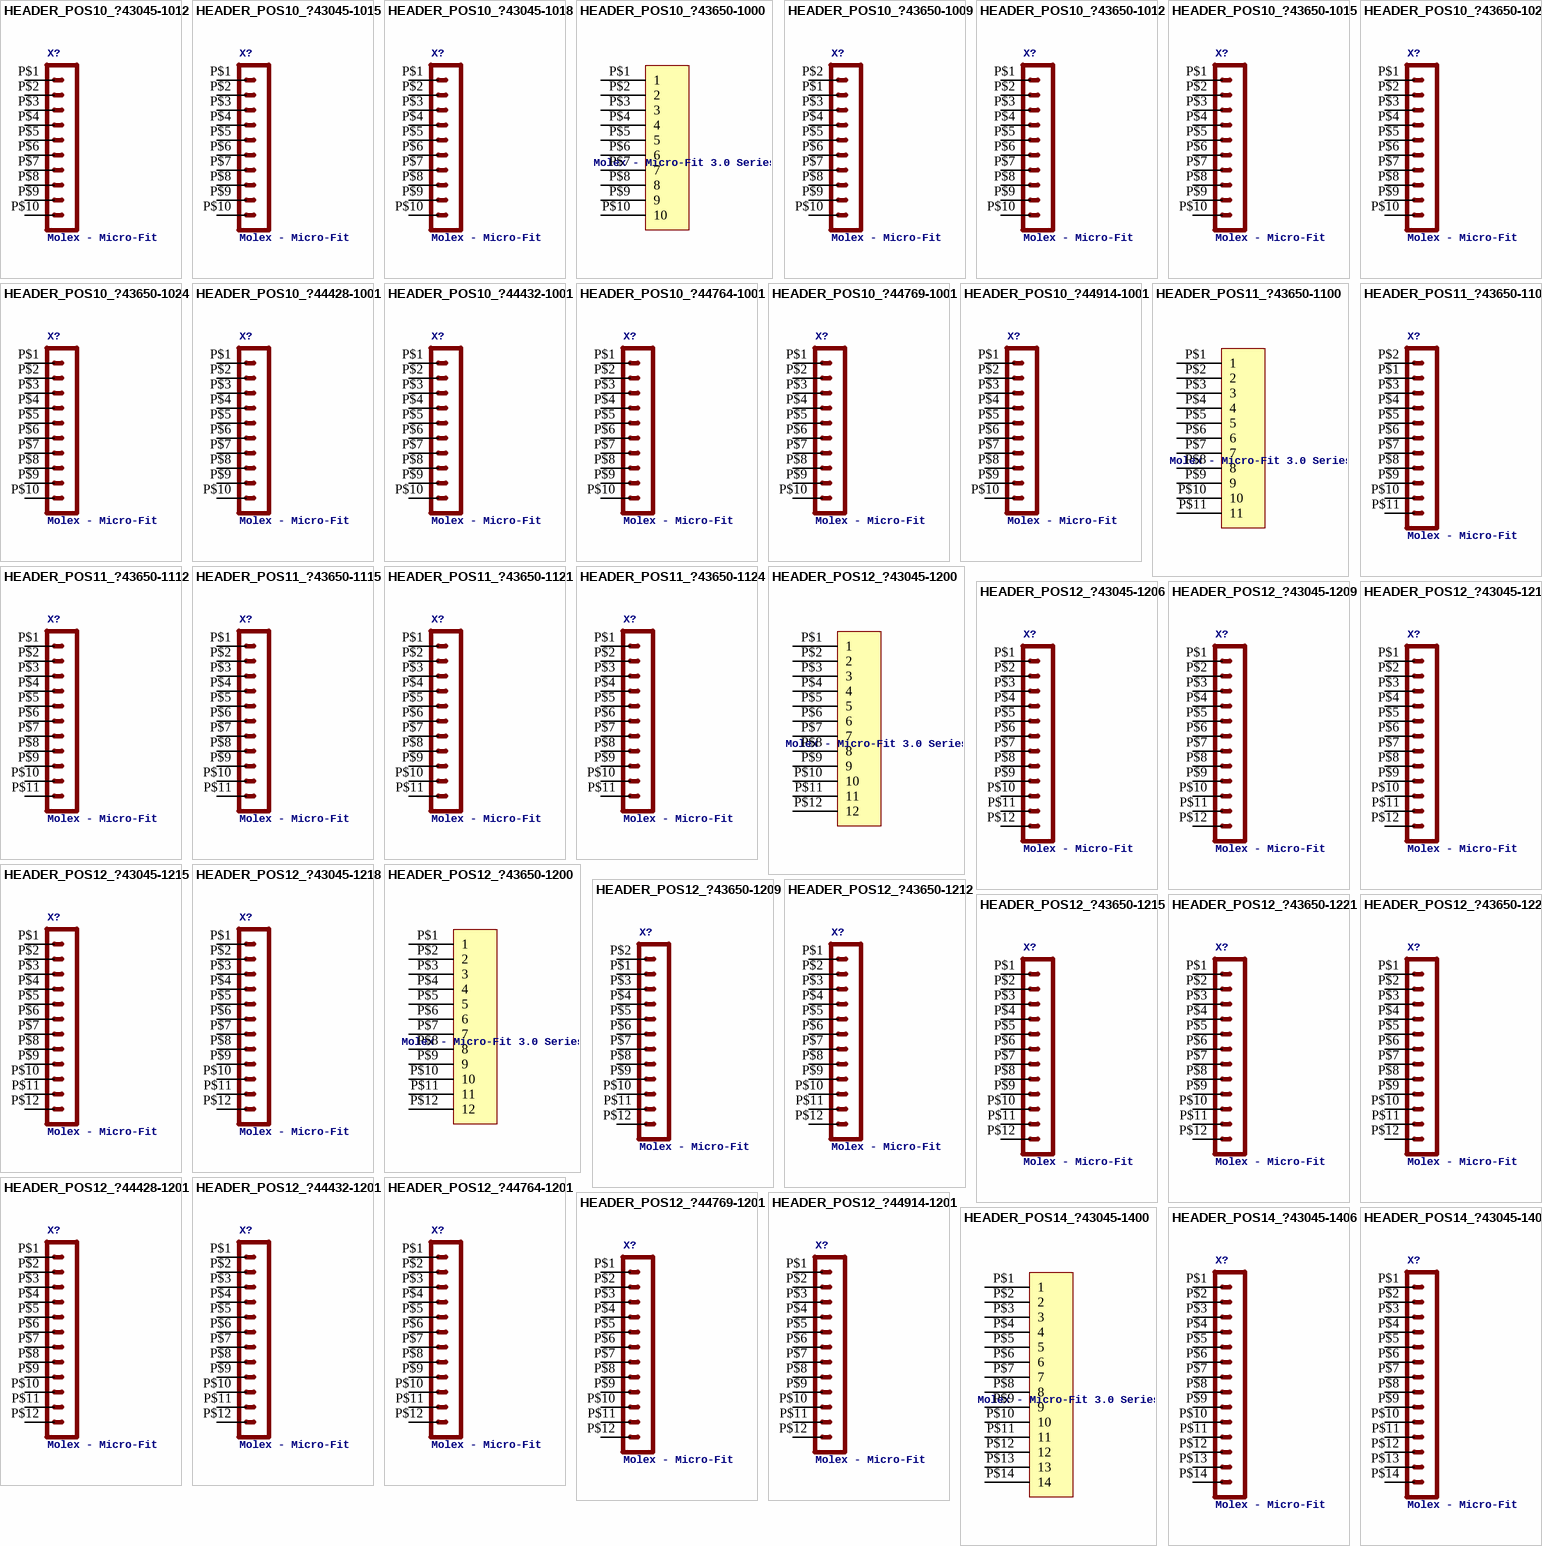
[diagram p2: symbols HEADER_POS10_?43045-1012 to HEADER_POS14_?43045-1409]

## HEADER_POS10_?43045-1012
designator X?, comment Molex - Micro-Fit 3.0 Series connector,  3.00mm (0.118") pitch header, 10 positions.
GateName_1: G$1; SymbolName_1: HEADER_POS10; DeviceName: 43045-1012; DeviceSetName: HEADER_POS10_?; LibraryName: con-molex-micro-fit-3_0_2; Package: 43045-1012
footprint 43045-1012
pins: P$1 1, P$2 2, P$3 3, P$4 4, P$5 5, P$6 6, P$7 7, P$8 8, P$9 9, P$10 10

## HEADER_POS10_?43045-1015
designator X?, comment Molex - Micro-Fit 3.0 Series connector,  3.00mm (0.118") pitch header, 10 positions.
GateName_1: G$1; SymbolName_1: HEADER_POS10; DeviceName: 43045-1015; DeviceSetName: HEADER_POS10_?; LibraryName: con-molex-micro-fit-3_0_2; Package: 43045-1015
footprint 43045-1015
pins: P$1 1, P$2 2, P$3 3, P$4 4, P$5 5, P$6 6, P$7 7, P$8 8, P$9 9, P$10 10

## HEADER_POS10_?43045-1018
designator X?, comment Molex - Micro-Fit 3.0 Series connector,  3.00mm (0.118") pitch header, 10 positions.
GateName_1: G$1; SymbolName_1: HEADER_POS10; DeviceName: 43045-1018; DeviceSetName: HEADER_POS10_?; LibraryName: con-molex-micro-fit-3_0_2; Package: 43045-1018
footprint 43045-1018
pins: P$1 1, P$2 2, P$3 3, P$4 4, P$5 5, P$6 6, P$7 7, P$8 8, P$9 9, P$10 10

## HEADER_POS10_?43650-1000
designator X?, comment Molex - Micro-Fit 3.0 Series connector,  3.00mm (0.118") pitch header, 10 positions.
GateName_1: G$1; SymbolName_1: HEADER_POS10; DeviceName: 43650-1000; DeviceSetName: HEADER_POS10_?; LibraryName: con-molex-micro-fit-3_0_2; Package: 43650-1000
footprint 43650-1000
pins: P$1 1, P$2 2, P$3 3, P$4 4, P$5 5, P$6 6, P$7 7, P$8 8, P$9 9, P$10 10

## HEADER_POS10_?43650-1009
designator X?, comment Molex - Micro-Fit 3.0 Series connector,  3.00mm (0.118") pitch header, 10 positions.
GateName_1: G$1; SymbolName_1: HEADER_POS10; DeviceName: 43650-1009; DeviceSetName: HEADER_POS10_?; LibraryName: con-molex-micro-fit-3_0_2; Package: 43650-1009
footprint 43650-1009
pins: P$1 2, P$2 1, P$3 3, P$4 4, P$5 5, P$6 6, P$7 7, P$8 8, P$9 9, P$10 10

## HEADER_POS10_?43650-1012
designator X?, comment Molex - Micro-Fit 3.0 Series connector,  3.00mm (0.118") pitch header, 10 positions.
GateName_1: G$1; SymbolName_1: HEADER_POS10; DeviceName: 43650-1012; DeviceSetName: HEADER_POS10_?; LibraryName: con-molex-micro-fit-3_0_2; Package: 43650-1012
footprint 43650-1012
pins: P$1 1, P$2 2, P$3 3, P$4 4, P$5 5, P$6 6, P$7 7, P$8 8, P$9 9, P$10 10

## HEADER_POS10_?43650-1015
designator X?, comment Molex - Micro-Fit 3.0 Series connector,  3.00mm (0.118") pitch header, 10 positions.
GateName_1: G$1; SymbolName_1: HEADER_POS10; DeviceName: 43650-1015; DeviceSetName: HEADER_POS10_?; LibraryName: con-molex-micro-fit-3_0_2; Package: 43650-1015
footprint 43650-1015
pins: P$1 1, P$2 2, P$3 3, P$4 4, P$5 5, P$6 6, P$7 7, P$8 8, P$9 9, P$10 10

## HEADER_POS10_?43650-1021
designator X?, comment Molex - Micro-Fit 3.0 Series connector,  3.00mm (0.118") pitch header, 10 positions.
GateName_1: G$1; SymbolName_1: HEADER_POS10; DeviceName: 43650-1021; DeviceSetName: HEADER_POS10_?; LibraryName: con-molex-micro-fit-3_0_2; Package: 43650-1021
footprint 43650-1021
pins: P$1 1, P$2 2, P$3 3, P$4 4, P$5 5, P$6 6, P$7 7, P$8 8, P$9 9, P$10 10

## HEADER_POS10_?43650-1024
designator X?, comment Molex - Micro-Fit 3.0 Series connector,  3.00mm (0.118") pitch header, 10 positions.
GateName_1: G$1; SymbolName_1: HEADER_POS10; DeviceName: 43650-1024; DeviceSetName: HEADER_POS10_?; LibraryName: con-molex-micro-fit-3_0_2; Package: 43650-1024
footprint 43650-1024
pins: P$1 1, P$2 2, P$3 3, P$4 4, P$5 5, P$6 6, P$7 7, P$8 8, P$9 9, P$10 10

## HEADER_POS10_?44428-1001
designator X?, comment Molex - Micro-Fit 3.0 Series connector,  3.00mm (0.118") pitch header, 10 positions.
GateName_1: G$1; SymbolName_1: HEADER_POS10; DeviceName: 44428-1001; DeviceSetName: HEADER_POS10_?; LibraryName: con-molex-micro-fit-3_0_2; Package: 44428-1001
footprint 44428-1001
pins: P$1 1, P$2 2, P$3 3, P$4 4, P$5 5, P$6 6, P$7 7, P$8 8, P$9 9, P$10 10

## HEADER_POS10_?44432-1001
designator X?, comment Molex - Micro-Fit 3.0 Series connector,  3.00mm (0.118") pitch header, 10 positions.
GateName_1: G$1; SymbolName_1: HEADER_POS10; DeviceName: 44432-1001; DeviceSetName: HEADER_POS10_?; LibraryName: con-molex-micro-fit-3_0_2; Package: 44432-1001
footprint 44432-1001
pins: P$1 1, P$2 2, P$3 3, P$4 4, P$5 5, P$6 6, P$7 7, P$8 8, P$9 9, P$10 10

## HEADER_POS10_?44764-1001
designator X?, comment Molex - Micro-Fit 3.0 Series connector,  3.00mm (0.118") pitch header, 10 positions.
GateName_1: G$1; SymbolName_1: HEADER_POS10; DeviceName: 44764-1001; DeviceSetName: HEADER_POS10_?; LibraryName: con-molex-micro-fit-3_0_2; Package: 44764-1001
footprint 44764-1001
pins: P$1 1, P$2 2, P$3 3, P$4 4, P$5 5, P$6 6, P$7 7, P$8 8, P$9 9, P$10 10

## HEADER_POS10_?44769-1001
designator X?, comment Molex - Micro-Fit 3.0 Series connector,  3.00mm (0.118") pitch header, 10 positions.
GateName_1: G$1; SymbolName_1: HEADER_POS10; DeviceName: 44769-1001; DeviceSetName: HEADER_POS10_?; LibraryName: con-molex-micro-fit-3_0_2; Package: 44769-1001
footprint 44769-1001
pins: P$1 1, P$2 2, P$3 3, P$4 4, P$5 5, P$6 6, P$7 7, P$8 8, P$9 9, P$10 10

## HEADER_POS10_?44914-1001
designator X?, comment Molex - Micro-Fit 3.0 Series connector,  3.00mm (0.118") pitch header, 10 positions.
GateName_1: G$1; SymbolName_1: HEADER_POS10; DeviceName: 44914-1001; DeviceSetName: HEADER_POS10_?; LibraryName: con-molex-micro-fit-3_0_2; Package: 44914-1001
footprint 44914-1001
pins: P$1 1, P$2 2, P$3 3, P$4 4, P$5 5, P$6 6, P$7 7, P$8 8, P$9 9, P$10 10

## HEADER_POS11_?43650-1100
designator X?, comment Molex - Micro-Fit 3.0 Series connector,  3.00mm (0.118") pitch header, 11 positions.
GateName_1: G$1; SymbolName_1: HEADER_POS11; DeviceName: 43650-1100; DeviceSetName: HEADER_POS11_?; LibraryName: con-molex-micro-fit-3_0_2; Package: 43650-1100
footprint 43650-1100
pins: P$1 1, P$2 2, P$3 3, P$4 4, P$5 5, P$6 6, P$7 7, P$8 8, P$9 9, P$10 10, P$11 11

## HEADER_POS11_?43650-1109
designator X?, comment Molex - Micro-Fit 3.0 Series connector,  3.00mm (0.118") pitch header, 11 positions.
GateName_1: G$1; SymbolName_1: HEADER_POS11; DeviceName: 43650-1109; DeviceSetName: HEADER_POS11_?; LibraryName: con-molex-micro-fit-3_0_2; Package: 43650-1109
footprint 43650-1109
pins: P$1 2, P$2 1, P$3 3, P$4 4, P$5 5, P$6 6, P$7 7, P$8 8, P$9 9, P$10 10, P$11 11

## HEADER_POS11_?43650-1112
designator X?, comment Molex - Micro-Fit 3.0 Series connector,  3.00mm (0.118") pitch header, 11 positions.
GateName_1: G$1; SymbolName_1: HEADER_POS11; DeviceName: 43650-1112; DeviceSetName: HEADER_POS11_?; LibraryName: con-molex-micro-fit-3_0_2; Package: 43650-1112
footprint 43650-1112
pins: P$1 1, P$2 2, P$3 3, P$4 4, P$5 5, P$6 6, P$7 7, P$8 8, P$9 9, P$10 10, P$11 11

## HEADER_POS11_?43650-1115
designator X?, comment Molex - Micro-Fit 3.0 Series connector,  3.00mm (0.118") pitch header, 11 positions.
GateName_1: G$1; SymbolName_1: HEADER_POS11; DeviceName: 43650-1115; DeviceSetName: HEADER_POS11_?; LibraryName: con-molex-micro-fit-3_0_2; Package: 43650-1115
footprint 43650-1115
pins: P$1 1, P$2 2, P$3 3, P$4 4, P$5 5, P$6 6, P$7 7, P$8 8, P$9 9, P$10 10, P$11 11

## HEADER_POS11_?43650-1121
designator X?, comment Molex - Micro-Fit 3.0 Series connector,  3.00mm (0.118") pitch header, 11 positions.
GateName_1: G$1; SymbolName_1: HEADER_POS11; DeviceName: 43650-1121; DeviceSetName: HEADER_POS11_?; LibraryName: con-molex-micro-fit-3_0_2; Package: 43650-1121
footprint 43650-1121
pins: P$1 1, P$2 2, P$3 3, P$4 4, P$5 5, P$6 6, P$7 7, P$8 8, P$9 9, P$10 10, P$11 11

## HEADER_POS11_?43650-1124
designator X?, comment Molex - Micro-Fit 3.0 Series connector,  3.00mm (0.118") pitch header, 11 positions.
GateName_1: G$1; SymbolName_1: HEADER_POS11; DeviceName: 43650-1124; DeviceSetName: HEADER_POS11_?; LibraryName: con-molex-micro-fit-3_0_2; Package: 43650-1124
footprint 43650-1124
pins: P$1 1, P$2 2, P$3 3, P$4 4, P$5 5, P$6 6, P$7 7, P$8 8, P$9 9, P$10 10, P$11 11

## HEADER_POS12_?43045-1200
designator X?, comment Molex - Micro-Fit 3.0 Series connector,  3.00mm (0.118") pitch header, 12 positions.
GateName_1: G$1; SymbolName_1: HEADER_POS12; DeviceName: 43045-1200; DeviceSetName: HEADER_POS12_?; LibraryName: con-molex-micro-fit-3_0_2; Package: 43045-1200
footprint 43045-1200
pins: P$1 1, P$2 2, P$3 3, P$4 4, P$5 5, P$6 6, P$7 7, P$8 8, P$9 9, P$10 10, P$11 11, P$12 12

## HEADER_POS12_?43045-1206
designator X?, comment Molex - Micro-Fit 3.0 Series connector,  3.00mm (0.118") pitch header, 12 positions.
GateName_1: G$1; SymbolName_1: HEADER_POS12; DeviceName: 43045-1206; DeviceSetName: HEADER_POS12_?; LibraryName: con-molex-micro-fit-3_0_2; Package: 43045-1206
footprint 43045-1206
pins: P$1 1, P$2 2, P$3 3, P$4 4, P$5 5, P$6 6, P$7 7, P$8 8, P$9 9, P$10 10, P$11 11, P$12 12

## HEADER_POS12_?43045-1209
designator X?, comment Molex - Micro-Fit 3.0 Series connector,  3.00mm (0.118") pitch header, 12 positions.
GateName_1: G$1; SymbolName_1: HEADER_POS12; DeviceName: 43045-1209; DeviceSetName: HEADER_POS12_?; LibraryName: con-molex-micro-fit-3_0_2; Package: 43045-1209
footprint 43045-1209
pins: P$1 1, P$2 2, P$3 3, P$4 4, P$5 5, P$6 6, P$7 7, P$8 8, P$9 9, P$10 10, P$11 11, P$12 12

## HEADER_POS12_?43045-1212
designator X?, comment Molex - Micro-Fit 3.0 Series connector,  3.00mm (0.118") pitch header, 12 positions.
GateName_1: G$1; SymbolName_1: HEADER_POS12; DeviceName: 43045-1212; DeviceSetName: HEADER_POS12_?; LibraryName: con-molex-micro-fit-3_0_2; Package: 43045-1212
footprint 43045-1212
pins: P$1 1, P$2 2, P$3 3, P$4 4, P$5 5, P$6 6, P$7 7, P$8 8, P$9 9, P$10 10, P$11 11, P$12 12

## HEADER_POS12_?43045-1215
designator X?, comment Molex - Micro-Fit 3.0 Series connector,  3.00mm (0.118") pitch header, 12 positions.
GateName_1: G$1; SymbolName_1: HEADER_POS12; DeviceName: 43045-1215; DeviceSetName: HEADER_POS12_?; LibraryName: con-molex-micro-fit-3_0_2; Package: 43045-1215
footprint 43045-1215
pins: P$1 1, P$2 2, P$3 3, P$4 4, P$5 5, P$6 6, P$7 7, P$8 8, P$9 9, P$10 10, P$11 11, P$12 12

## HEADER_POS12_?43045-1218
designator X?, comment Molex - Micro-Fit 3.0 Series connector,  3.00mm (0.118") pitch header, 12 positions.
GateName_1: G$1; SymbolName_1: HEADER_POS12; DeviceName: 43045-1218; DeviceSetName: HEADER_POS12_?; LibraryName: con-molex-micro-fit-3_0_2; Package: 43045-1218
footprint 43045-1218
pins: P$1 1, P$2 2, P$3 3, P$4 4, P$5 5, P$6 6, P$7 7, P$8 8, P$9 9, P$10 10, P$11 11, P$12 12

## HEADER_POS12_?43650-1200
designator X?, comment Molex - Micro-Fit 3.0 Series connector,  3.00mm (0.118") pitch header, 12 positions.
GateName_1: G$1; SymbolName_1: HEADER_POS12; DeviceName: 43650-1200; DeviceSetName: HEADER_POS12_?; LibraryName: con-molex-micro-fit-3_0_2; Package: 43650-1200
footprint 43650-1200
pins: P$1 1, P$2 2, P$3 3, P$4 4, P$5 5, P$6 6, P$7 7, P$8 8, P$9 9, P$10 10, P$11 11, P$12 12

## HEADER_POS12_?43650-1209
designator X?, comment Molex - Micro-Fit 3.0 Series connector,  3.00mm (0.118") pitch header, 12 positions.
GateName_1: G$1; SymbolName_1: HEADER_POS12; DeviceName: 43650-1209; DeviceSetName: HEADER_POS12_?; LibraryName: con-molex-micro-fit-3_0_2; Package: 43650-1209
footprint 43650-1209
pins: P$1 2, P$2 1, P$3 3, P$4 4, P$5 5, P$6 6, P$7 7, P$8 8, P$9 9, P$10 10, P$11 11, P$12 12

## HEADER_POS12_?43650-1212
designator X?, comment Molex - Micro-Fit 3.0 Series connector,  3.00mm (0.118") pitch header, 12 positions.
GateName_1: G$1; SymbolName_1: HEADER_POS12; DeviceName: 43650-1212; DeviceSetName: HEADER_POS12_?; LibraryName: con-molex-micro-fit-3_0_2; Package: 43650-1212
footprint 43650-1212
pins: P$1 1, P$2 2, P$3 3, P$4 4, P$5 5, P$6 6, P$7 7, P$8 8, P$9 9, P$10 10, P$11 11, P$12 12

## HEADER_POS12_?43650-1215
designator X?, comment Molex - Micro-Fit 3.0 Series connector,  3.00mm (0.118") pitch header, 12 positions.
GateName_1: G$1; SymbolName_1: HEADER_POS12; DeviceName: 43650-1215; DeviceSetName: HEADER_POS12_?; LibraryName: con-molex-micro-fit-3_0_2; Package: 43650-1215
footprint 43650-1215
pins: P$1 1, P$2 2, P$3 3, P$4 4, P$5 5, P$6 6, P$7 7, P$8 8, P$9 9, P$10 10, P$11 11, P$12 12

## HEADER_POS12_?43650-1221
designator X?, comment Molex - Micro-Fit 3.0 Series connector,  3.00mm (0.118") pitch header, 12 positions.
GateName_1: G$1; SymbolName_1: HEADER_POS12; DeviceName: 43650-1221; DeviceSetName: HEADER_POS12_?; LibraryName: con-molex-micro-fit-3_0_2; Package: 43650-1221
footprint 43650-1221
pins: P$1 1, P$2 2, P$3 3, P$4 4, P$5 5, P$6 6, P$7 7, P$8 8, P$9 9, P$10 10, P$11 11, P$12 12

## HEADER_POS12_?43650-1224
designator X?, comment Molex - Micro-Fit 3.0 Series connector,  3.00mm (0.118") pitch header, 12 positions.
GateName_1: G$1; SymbolName_1: HEADER_POS12; DeviceName: 43650-1224; DeviceSetName: HEADER_POS12_?; LibraryName: con-molex-micro-fit-3_0_2; Package: 43650-1224
footprint 43650-1224
pins: P$1 1, P$2 2, P$3 3, P$4 4, P$5 5, P$6 6, P$7 7, P$8 8, P$9 9, P$10 10, P$11 11, P$12 12

## HEADER_POS12_?44428-1201
designator X?, comment Molex - Micro-Fit 3.0 Series connector,  3.00mm (0.118") pitch header, 12 positions.
GateName_1: G$1; SymbolName_1: HEADER_POS12; DeviceName: 44428-1201; DeviceSetName: HEADER_POS12_?; LibraryName: con-molex-micro-fit-3_0_2; Package: 44428-1201
footprint 44428-1201
pins: P$1 1, P$2 2, P$3 3, P$4 4, P$5 5, P$6 6, P$7 7, P$8 8, P$9 9, P$10 10, P$11 11, P$12 12

## HEADER_POS12_?44432-1201
designator X?, comment Molex - Micro-Fit 3.0 Series connector,  3.00mm (0.118") pitch header, 12 positions.
GateName_1: G$1; SymbolName_1: HEADER_POS12; DeviceName: 44432-1201; DeviceSetName: HEADER_POS12_?; LibraryName: con-molex-micro-fit-3_0_2; Package: 44432-1201
footprint 44432-1201
pins: P$1 1, P$2 2, P$3 3, P$4 4, P$5 5, P$6 6, P$7 7, P$8 8, P$9 9, P$10 10, P$11 11, P$12 12

## HEADER_POS12_?44764-1201
designator X?, comment Molex - Micro-Fit 3.0 Series connector,  3.00mm (0.118") pitch header, 12 positions.
GateName_1: G$1; SymbolName_1: HEADER_POS12; DeviceName: 44764-1201; DeviceSetName: HEADER_POS12_?; LibraryName: con-molex-micro-fit-3_0_2; Package: 44764-1201
footprint 44764-1201
pins: P$1 1, P$2 2, P$3 3, P$4 4, P$5 5, P$6 6, P$7 7, P$8 8, P$9 9, P$10 10, P$11 11, P$12 12

## HEADER_POS12_?44769-1201
designator X?, comment Molex - Micro-Fit 3.0 Series connector,  3.00mm (0.118") pitch header, 12 positions.
GateName_1: G$1; SymbolName_1: HEADER_POS12; DeviceName: 44769-1201; DeviceSetName: HEADER_POS12_?; LibraryName: con-molex-micro-fit-3_0_2; Package: 44769-1201
footprint 44769-1201
pins: P$1 1, P$2 2, P$3 3, P$4 4, P$5 5, P$6 6, P$7 7, P$8 8, P$9 9, P$10 10, P$11 11, P$12 12

## HEADER_POS12_?44914-1201
designator X?, comment Molex - Micro-Fit 3.0 Series connector,  3.00mm (0.118") pitch header, 12 positions.
GateName_1: G$1; SymbolName_1: HEADER_POS12; DeviceName: 44914-1201; DeviceSetName: HEADER_POS12_?; LibraryName: con-molex-micro-fit-3_0_2; Package: 44914-1201
footprint 44914-1201
pins: P$1 1, P$2 2, P$3 3, P$4 4, P$5 5, P$6 6, P$7 7, P$8 8, P$9 9, P$10 10, P$11 11, P$12 12

## HEADER_POS14_?43045-1400
designator X?, comment Molex - Micro-Fit 3.0 Series connector,  3.00mm (0.118") pitch header, 14 positions.
GateName_1: G$1; SymbolName_1: HEADER_POS14; DeviceName: 43045-1400; DeviceSetName: HEADER_POS14_?; LibraryName: con-molex-micro-fit-3_0_2; Package: 43045-1400
footprint 43045-1400
pins: P$1 1, P$2 2, P$3 3, P$4 4, P$5 5, P$6 6, P$7 7, P$8 8, P$9 9, P$10 10, P$11 11, P$12 12, P$13 13, P$14 14

## HEADER_POS14_?43045-1406
designator X?, comment Molex - Micro-Fit 3.0 Series connector,  3.00mm (0.118") pitch header, 14 positions.
GateName_1: G$1; SymbolName_1: HEADER_POS14; DeviceName: 43045-1406; DeviceSetName: HEADER_POS14_?; LibraryName: con-molex-micro-fit-3_0_2; Package: 43045-1406
footprint 43045-1406
pins: P$1 1, P$2 2, P$3 3, P$4 4, P$5 5, P$6 6, P$7 7, P$8 8, P$9 9, P$10 10, P$11 11, P$12 12, P$13 13, P$14 14

## HEADER_POS14_?43045-1409
designator X?, comment Molex - Micro-Fit 3.0 Series connector,  3.00mm (0.118") pitch header, 14 positions.
GateName_1: G$1; SymbolName_1: HEADER_POS14; DeviceName: 43045-1409; DeviceSetName: HEADER_POS14_?; LibraryName: con-molex-micro-fit-3_0_2; Package: 43045-1409
footprint 43045-1409
pins: P$1 1, P$2 2, P$3 3, P$4 4, P$5 5, P$6 6, P$7 7, P$8 8, P$9 9, P$10 10, P$11 11, P$12 12, P$13 13, P$14 14

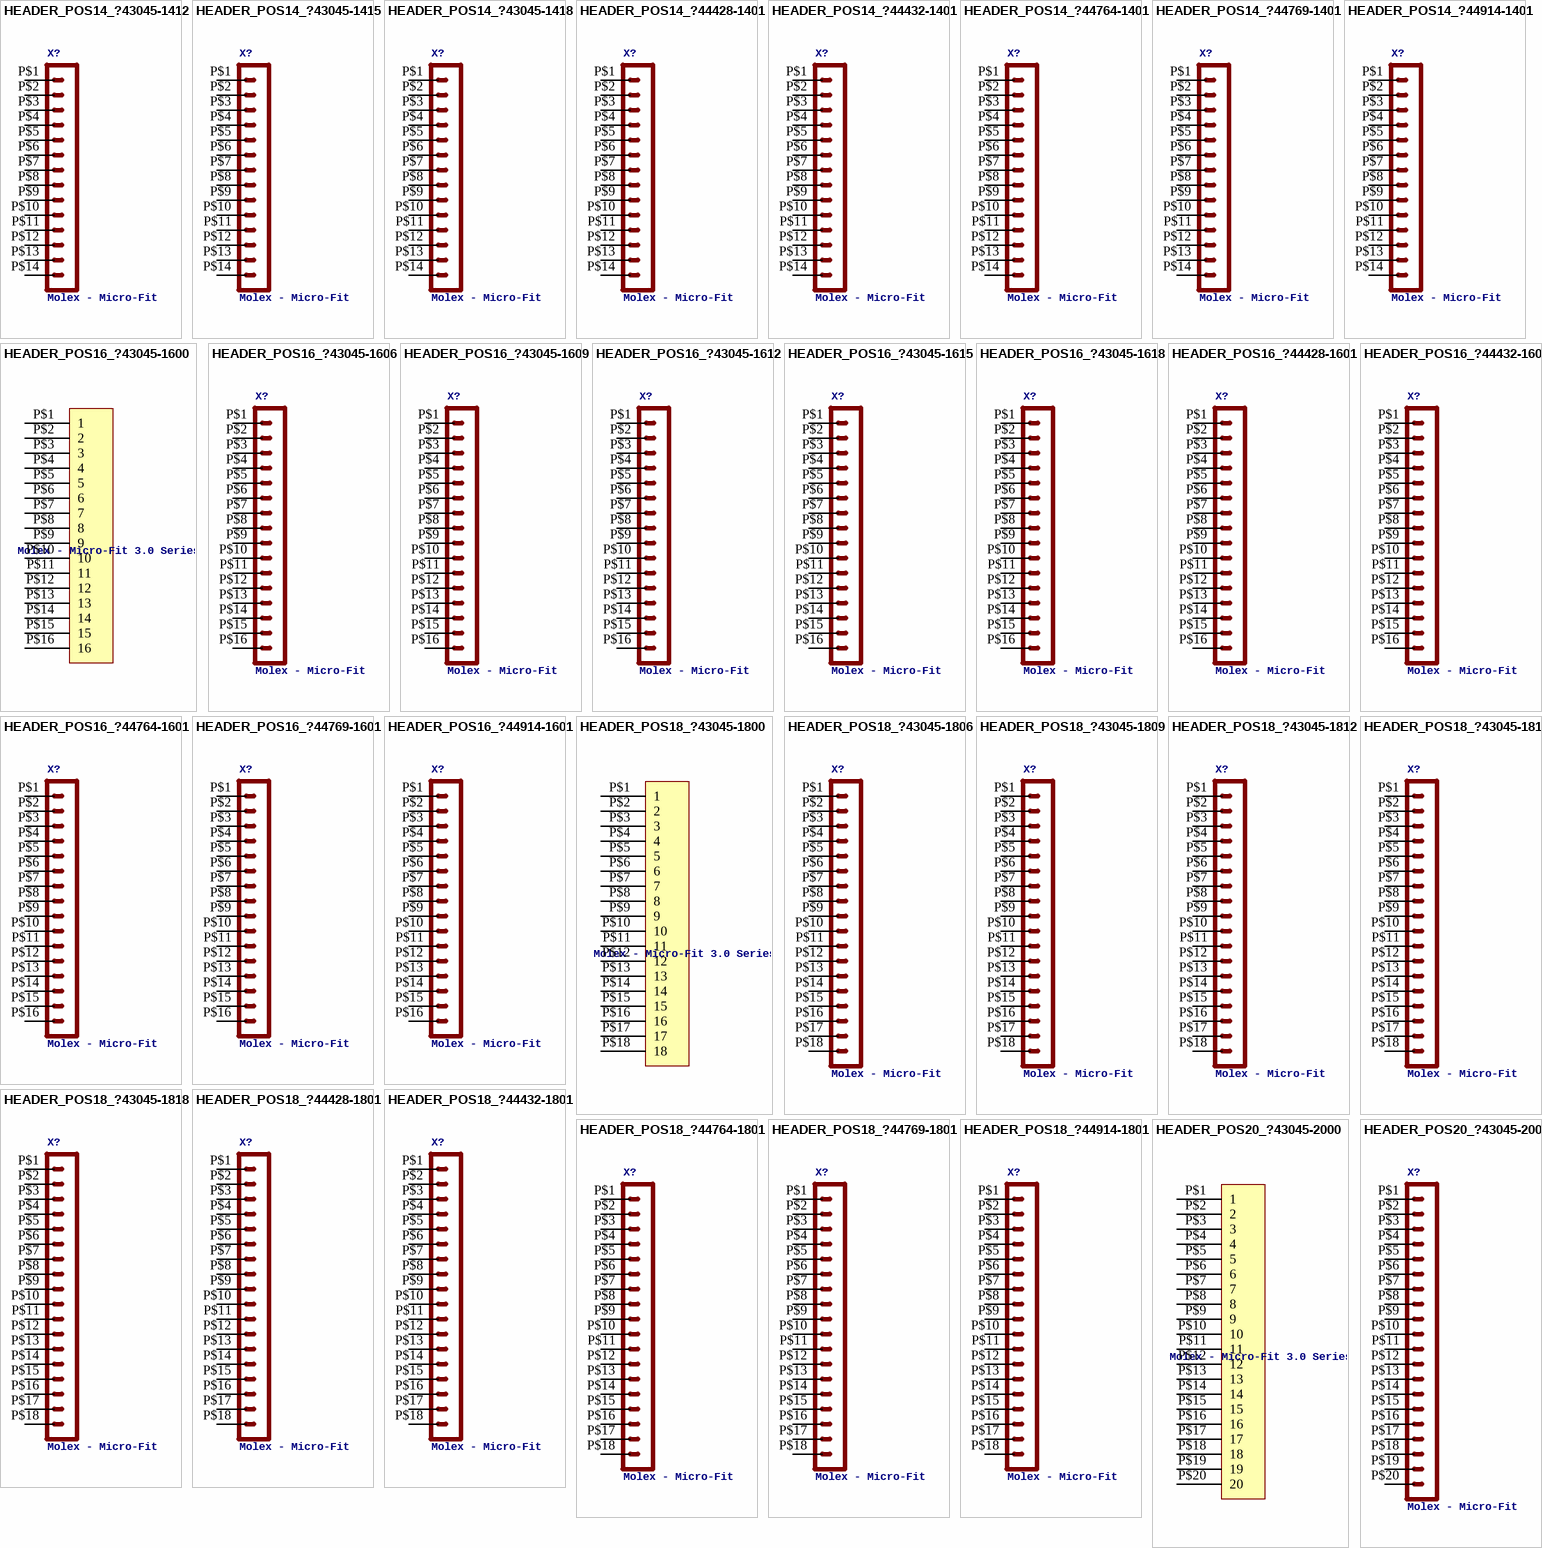
[diagram p3: symbols HEADER_POS14_?43045-1412 to HEADER_POS20_?43045-2006]

## HEADER_POS14_?43045-1412
designator X?, comment Molex - Micro-Fit 3.0 Series connector,  3.00mm (0.118") pitch header, 14 positions.
GateName_1: G$1; SymbolName_1: HEADER_POS14; DeviceName: 43045-1412; DeviceSetName: HEADER_POS14_?; LibraryName: con-molex-micro-fit-3_0_2; Package: 43045-1412
footprint 43045-1412
pins: P$1 1, P$2 2, P$3 3, P$4 4, P$5 5, P$6 6, P$7 7, P$8 8, P$9 9, P$10 10, P$11 11, P$12 12, P$13 13, P$14 14

## HEADER_POS14_?43045-1415
designator X?, comment Molex - Micro-Fit 3.0 Series connector,  3.00mm (0.118") pitch header, 14 positions.
GateName_1: G$1; SymbolName_1: HEADER_POS14; DeviceName: 43045-1415; DeviceSetName: HEADER_POS14_?; LibraryName: con-molex-micro-fit-3_0_2; Package: 43045-1415
footprint 43045-1415
pins: P$1 1, P$2 2, P$3 3, P$4 4, P$5 5, P$6 6, P$7 7, P$8 8, P$9 9, P$10 10, P$11 11, P$12 12, P$13 13, P$14 14

## HEADER_POS14_?43045-1418
designator X?, comment Molex - Micro-Fit 3.0 Series connector,  3.00mm (0.118") pitch header, 14 positions.
GateName_1: G$1; SymbolName_1: HEADER_POS14; DeviceName: 43045-1418; DeviceSetName: HEADER_POS14_?; LibraryName: con-molex-micro-fit-3_0_2; Package: 43045-1418
footprint 43045-1418
pins: P$1 1, P$2 2, P$3 3, P$4 4, P$5 5, P$6 6, P$7 7, P$8 8, P$9 9, P$10 10, P$11 11, P$12 12, P$13 13, P$14 14

## HEADER_POS14_?44428-1401
designator X?, comment Molex - Micro-Fit 3.0 Series connector,  3.00mm (0.118") pitch header, 14 positions.
GateName_1: G$1; SymbolName_1: HEADER_POS14; DeviceName: 44428-1401; DeviceSetName: HEADER_POS14_?; LibraryName: con-molex-micro-fit-3_0_2; Package: 44428-1401
footprint 44428-1401
pins: P$1 1, P$2 2, P$3 3, P$4 4, P$5 5, P$6 6, P$7 7, P$8 8, P$9 9, P$10 10, P$11 11, P$12 12, P$13 13, P$14 14

## HEADER_POS14_?44432-1401
designator X?, comment Molex - Micro-Fit 3.0 Series connector,  3.00mm (0.118") pitch header, 14 positions.
GateName_1: G$1; SymbolName_1: HEADER_POS14; DeviceName: 44432-1401; DeviceSetName: HEADER_POS14_?; LibraryName: con-molex-micro-fit-3_0_2; Package: 44432-1401
footprint 44432-1401
pins: P$1 1, P$2 2, P$3 3, P$4 4, P$5 5, P$6 6, P$7 7, P$8 8, P$9 9, P$10 10, P$11 11, P$12 12, P$13 13, P$14 14

## HEADER_POS14_?44764-1401
designator X?, comment Molex - Micro-Fit 3.0 Series connector,  3.00mm (0.118") pitch header, 14 positions.
GateName_1: G$1; SymbolName_1: HEADER_POS14; DeviceName: 44764-1401; DeviceSetName: HEADER_POS14_?; LibraryName: con-molex-micro-fit-3_0_2; Package: 44764-1401
footprint 44764-1401
pins: P$1 1, P$2 2, P$3 3, P$4 4, P$5 5, P$6 6, P$7 7, P$8 8, P$9 9, P$10 10, P$11 11, P$12 12, P$13 13, P$14 14

## HEADER_POS14_?44769-1401
designator X?, comment Molex - Micro-Fit 3.0 Series connector,  3.00mm (0.118") pitch header, 14 positions.
GateName_1: G$1; SymbolName_1: HEADER_POS14; DeviceName: 44769-1401; DeviceSetName: HEADER_POS14_?; LibraryName: con-molex-micro-fit-3_0_2; Package: 44769-1401
footprint 44769-1401
pins: P$1 1, P$2 2, P$3 3, P$4 4, P$5 5, P$6 6, P$7 7, P$8 8, P$9 9, P$10 10, P$11 11, P$12 12, P$13 13, P$14 14

## HEADER_POS14_?44914-1401
designator X?, comment Molex - Micro-Fit 3.0 Series connector,  3.00mm (0.118") pitch header, 14 positions.
GateName_1: G$1; SymbolName_1: HEADER_POS14; DeviceName: 44914-1401; DeviceSetName: HEADER_POS14_?; LibraryName: con-molex-micro-fit-3_0_2; Package: 44914-1401
footprint 44914-1401
pins: P$1 1, P$2 2, P$3 3, P$4 4, P$5 5, P$6 6, P$7 7, P$8 8, P$9 9, P$10 10, P$11 11, P$12 12, P$13 13, P$14 14

## HEADER_POS16_?43045-1600
designator X?, comment Molex - Micro-Fit 3.0 Series connector,  3.00mm (0.118") pitch header, 16 positions.
GateName_1: G$1; SymbolName_1: HEADER_POS16; DeviceName: 43045-1600; DeviceSetName: HEADER_POS16_?; LibraryName: con-molex-micro-fit-3_0_2; Package: 43045-1600
footprint 43045-1600
pins: P$1 1, P$2 2, P$3 3, P$4 4, P$5 5, P$6 6, P$7 7, P$8 8, P$9 9, P$10 10, P$11 11, P$12 12, P$13 13, P$14 14, P$15 15, P$16 16

## HEADER_POS16_?43045-1606
designator X?, comment Molex - Micro-Fit 3.0 Series connector,  3.00mm (0.118") pitch header, 16 positions.
GateName_1: G$1; SymbolName_1: HEADER_POS16; DeviceName: 43045-1606; DeviceSetName: HEADER_POS16_?; LibraryName: con-molex-micro-fit-3_0_2; Package: 43045-1606
footprint 43045-1606
pins: P$1 1, P$2 2, P$3 3, P$4 4, P$5 5, P$6 6, P$7 7, P$8 8, P$9 9, P$10 10, P$11 11, P$12 12, P$13 13, P$14 14, P$15 15, P$16 16

## HEADER_POS16_?43045-1609
designator X?, comment Molex - Micro-Fit 3.0 Series connector,  3.00mm (0.118") pitch header, 16 positions.
GateName_1: G$1; SymbolName_1: HEADER_POS16; DeviceName: 43045-1609; DeviceSetName: HEADER_POS16_?; LibraryName: con-molex-micro-fit-3_0_2; Package: 43045-1609
footprint 43045-1609
pins: P$1 1, P$2 2, P$3 3, P$4 4, P$5 5, P$6 6, P$7 7, P$8 8, P$9 9, P$10 10, P$11 11, P$12 12, P$13 13, P$14 14, P$15 15, P$16 16